# Altium schematic symbol library Components - 16.09.24 - 19.49.SchLib: 1 symbol
Pins are listed as number, name and electrical type; pins without a type are passive.

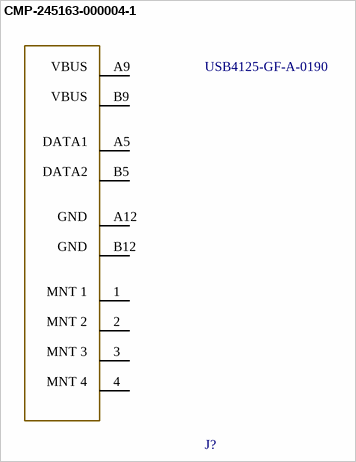
[diagram p0: symbol CMP-245163-000004-1]

## CMP-245163-000004-1
designator J?, comment USB4125-GF-A-0190
CONN RCPT TYPE C 6P SMD RA
footprint FP-USB4125-GF-A-0190-MFG
pins: 1 MNT 1, 2 MNT 2, 3 MNT 3, 4 MNT 4, A5 CC1, A9 VBUS, A12 GND, B5 CC2, B9 VBUS, B12 GND
text: DATA1; DATA2